# Altium footprint library StepCounter_sensor_pcblib.PcbLib: 5 footprints
Each footprint in its own frame and in the unit in brackets; x right, y up, seen from the top. Pads: shape width x height; smd on the part's side, far side on the other; paste and mask are expansions set on the pad; w line width, h text height; cw(c..) or ccw(c..) is an arc to the next point about the centre after c.
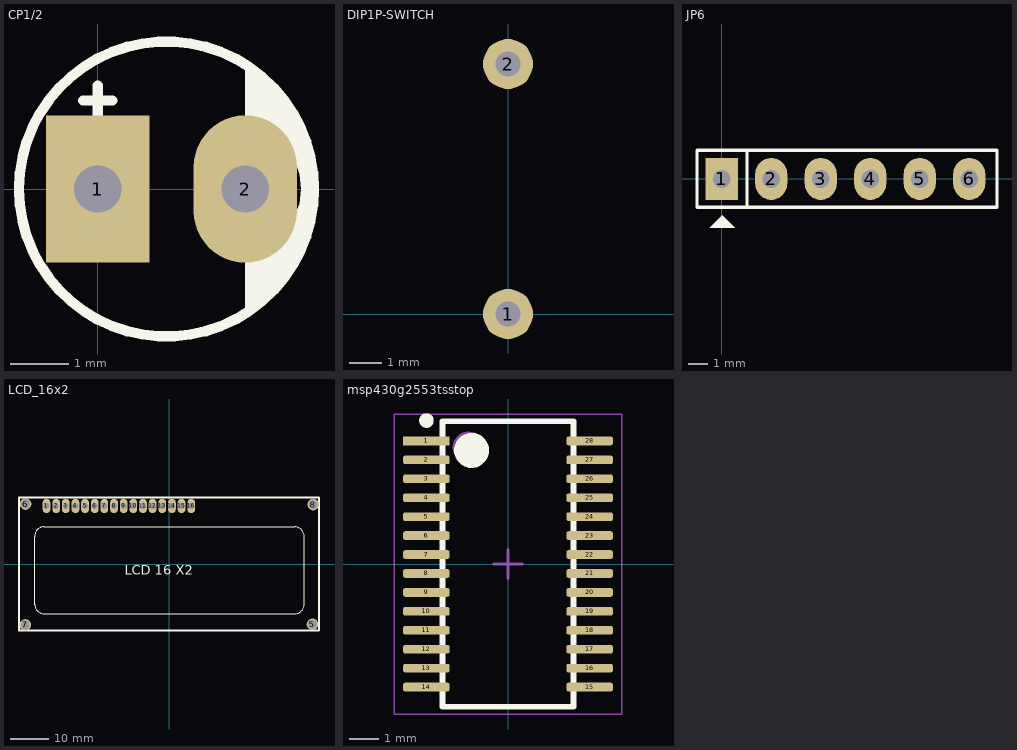
[diagram p0: the footprints below, top view; thin cyan lines are the x and y axes]

## CP1/2 [mil] "Tu hoa < 22uF/16>50V"
height 300
pads (2):
  rect 70x100 hole 32: 1(0,0)
  oval 70x100 hole 32: 2(100,0)
Top Overlay:
  circle w7: c46.58,0 r100
  region: 100,84 100,38 112,36 122,32 129,27 134,19 137,10 138,0 137,-10 134,-17 129,-24 123,-31 117,-35 107,-38 100,-38 100,-85 108,-78 120,-69 128,-59 137,-44 144,-19 146,9 139,40 127,60 110,79
  lines w7: -10,60 10,60 ; 0,50 0,70
3D body "User Library-Cap electro 5x7x2mm.STEP": height 287.03, standoff -138.05, extent -49.42,-99.42 149.42,99.42

## DIP1P-SWITCH [mil] "DIP1P-SUITCH"
pads (2):
  round 60 hole 30: 1(0,0) 2(0,300)
3D body "418117270901 (rev1).stp": height 253.94, standoff -161.42, extent -75.18,-46.88 76,342.88

## JP6 [mil] "JP6"
height 200
pads (6):
  rect 65x85 hole 36: 1(0,0)
  oval 65x85 hole 36: 2(100,0) 3(200,0) 4(300,0) 5(400,0) 6(500,0)
Top Overlay:
  region: 1,-74 -24,-99 26,-99
  lines w7: 51,-57 51,56 ; -50,-57 556,-57 556,58 -50,58 -50,-57
3D body "JP1-6.stp": height 323.43, standoff -117.51, extent -48.03,-50 548.03,48.43

## LCD_16x2 [mil] "Test"
pads (20):
  oval 80x150 hole 60: 1(-1272.5,606.5) 2(-1172.5,606.5) 3(-1072.5,606.5) 4(-972.5,606.5) 5(-872.5,606.5) 6(-772.5,606.5) 7(-672.5,606.5) 8(-572.5,606.5) 9(-472.5,606.5) 10(-372.5,606.5) 11(-272.5,606.5) 12(-172.5,606.5) 13(-72.5,606.5) 14(27.5,606.5) 15(127.5,606.5) 16(227.5,606.5)
  round 120 hole 90: 5(1484.51,-620.49) 6(-1489.51,626.52) 7(-1492.5,-626.52) 8(1492.5,621.5)
Top Overlay:
  lines w10: -1395,-415 -1395,290 cw(c-1297.5,292.5) -1300,390 1300,390 cw(c1300,290) 1400,290 1400,-415 cw(c1300,-410) 1295,-510 -1300,-510 cw(c-1297.5,-412.5) -1395,-410
  lines w20: -1557.5,-683.5 1552.5,-683.5 1552.5,696.5 -1557.5,696.5 -1557.5,-683.5
  text "LCD 16 X2" at -460,-105 h100

## msp430g2553tsstop [mm] "TSOP, 28-Leads, Body 9.70x4.40mm, Pitch 0.65mm, IPC Medium Density"
height 1.2
pads (28):
  rect 1.6x0.3 smd: 1(-2.8,4.225)
  rrect50% 1.6x0.3 smd: 2(-2.8,3.575) 3(-2.8,2.925) 4(-2.8,2.275) 5(-2.8,1.625) 6(-2.8,0.975) 7(-2.8,0.325) 8(-2.8,-0.325) 9(-2.8,-0.975) 10(-2.8,-1.625) 11(-2.8,-2.275) 12(-2.8,-2.925) 13(-2.8,-3.575) 14(-2.8,-4.225) 15(2.8,-4.225) 16(2.8,-3.575) 17(2.8,-2.925) 18(2.8,-2.275) 19(2.8,-1.625) 20(2.8,-0.975) 21(2.8,-0.325) 22(2.8,0.325) 23(2.8,0.975) 24(2.8,1.625) 25(2.8,2.275) 26(2.8,2.925) 27(2.8,3.575) 28(2.8,4.225)
Top Overlay:
  circle w0.6: c-1.25,3.9 r0.3
  circle w0.25: c-2.8,4.925 r0.125
  lines w0.2: -2.25,-4.9 2.25,-4.9 2.25,4.9 -2.25,4.9 -2.25,-4.9
Mechanical 9:
  circle w0.1: c-1.35,4 r0.5
  lines w0.05: -3.9,-5.15 3.9,-5.15 3.9,5.15 -3.9,5.15 -3.9,-5.15
  lines w0.1: -0.5,0 0.5,0 ; 0,-0.5 0,0.5 ; -2.25,-4.9 2.25,-4.9 2.25,4.9 -2.25,4.9 -2.25,-4.9
3D body: height 1.2, standoff 0.25, extent -2.25,-4.9 2.25,4.9